# Altium schematic symbol library IPB017N06N3 G.SchLib: 1 symbol
Pins are listed as number, name and electrical type; pins without a type are passive.

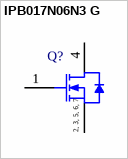
[diagram p0: symbol IPB017N06N3 G]

## IPB017N06N3 G
designator Q?
N-Channel OptiMOS 3 Power-Transistor, 60 V VDS, 180 A ID, -55 to 175 degC, PG-TO-263-7-2, Reel, Green; Manufacturer: Infineon; PartNumber: IPB017N06N3 G; Green: TRUE; ID (max): 180 A; IDpuls (max): 720 A; Polarity: N; Ptot (max): 250 W; QG: 206 nC; RDS (on) (max): 1.7 mOhm; Rth: 0.6 K/W; RthJA (max): 62 K/W; VDS (max): 60 V; VGS(th) (max): 4 V; VGS(th) (min): 2 V; DatasheetVersion: Rev. 2.2; PackageVersion: Rev. 01, 11/2007; PackageReference: PG-TO-263-7-2; PackageDescription: 7-Pin Plastic (Green) Transistor Single Outline Package, 10.1 x 8.98 mm Body, 1.27 mm Pitch; Supplier 1: Digi-Key; Supplier Part Number 1: IPB017N06N3 GTR-ND; Supplier 2: Digi-Key; Supplier Part Number 2: IPB017N06N3 GCT-ND; Supplier 3: Digi-Key; Supplier Part Number 3: IPB017N06N3 GDKR-ND; Supplier 4: Farnell; Supplier Part Number 4: 1775519; Supplier 5: Newark; Supplier Part Number 5: 60R2643; Supplier 6: Mouser; Supplier Part Number 6: 726-IPB017N06N3G; Halogen-free: TRUE; Packing: Reel; RthJC (max): 0.6 K/W; Mounting Technology: Surface Mount; ComponentLink1Description: Manufacturer URL; ComponentLink1URL: http://www.infineon.com/; ComponentLink2Description: Datasheet; ComponentLink2URL: http://www.infineon.com/dgdl/IPB017N06N3_Rev2.2.pdf?folderId=db3a30431441fb5d01148ca9f1be0e77&fileId=db3a30431ddc9372011e264a7ab746ea; ComponentLink3Description: Package Specification; ComponentLink3URL: http://www.infineon.com/dgdl/BTS621L1_20030922.pdf?folderId=db3a30431400ef68011421b54e2e0564&fileId=db3a304333227b5e0133258247c72ecc&sId=db3a30433d68e984013d8539603e0d72
footprint INF-PG-TO-263-7-2_N (DPAK, 7-Leads, Body 10.1x8.98mm, Pitch 1.27mm, IPC Medium Density)
footprint INF-PG-TO-263-7-2_L (DPAK, 7-Leads, Body 10.1x8.98mm, Pitch 1.27mm, IPC High Density)
footprint INF-PG-TO-263-7-2_M (DPAK, 7-Leads, Body 10.1x8.98mm, Pitch 1.27mm, IPC Low Density)
pins: 1 GATE, 2 SOURCE, 3 SOURCE, 4 DRAIN, 5 SOURCE, 6 SOURCE, 7 SOURCE
text: 2, 3, 5, 6, 7